# Altium integrated library My_Library_Temp_Sensor.IntLib: 1 symbol
Pins are listed as number, name and electrical type; pins without a type are passive.

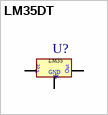
[diagram p0: symbol LM35DT]

## LM35DT
designator U?
footprint TO-220
pins: 1 Vcc, 2 GND, 3 OUT
text: LM35; Out